# EAGLE library part INA214 (library IC & Transistor)
Voltage Output Current Shunt Monitor
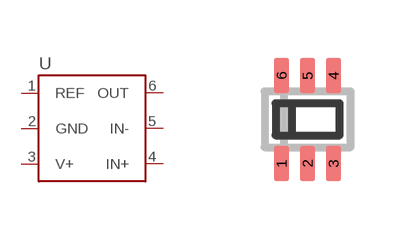
[diagram p6: symbol with the pads of SC-70-6; footprint SC-70-6]

Designator prefix U

## INA214_(SC70-6) (CYTRON-PC: S-IC-INA214-SC706; DESC: S Current Shunt Monitor INA214 SC-70-6; MF: Texas Instruments; MPN: INA214)  [SC-70-6]
1  REF
2  GND
3  V+
4  IN+
5  IN-
6  OUT

## Footprint SC-70-6 (pad centres in mm)
SC-70-6 SC-88 SOT363
smd 0.38 x 0.9: 1 -0.65,-1.1; 2 0,-1.1; 3 0.65,-1.1; 4 0.65,1.1; 5 0,1.1; 6 -0.65,1.1